# Altium integrated library GH125.IntLib: 11 symbols
Pins are listed as number, name and electrical type; pins without a type are passive.

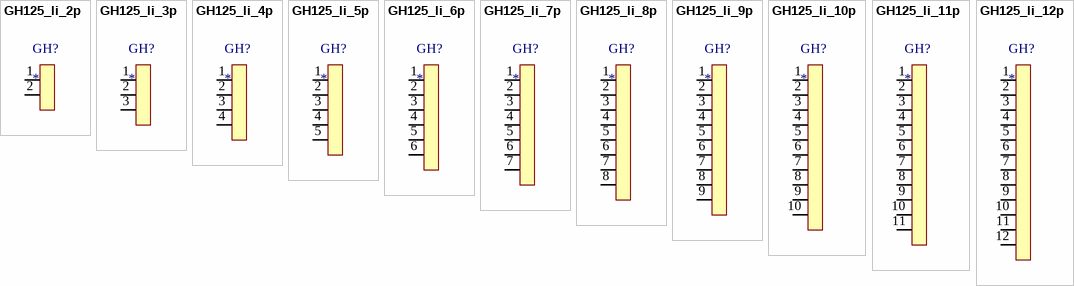
[diagram p0: symbols GH125_li_2p to GH125_li_12p]

## GH125_li_2p
designator GH?
footprint GH125_li_2p
pins: 1, 2

## GH125_li_3p
designator GH?
footprint GH125_li_3p
pins: 1, 2, 3

## GH125_li_4p
designator GH?
footprint GH125_li_4p
pins: 1, 2, 3, 4

## GH125_li_5p
designator GH?
footprint GH125_li_5p
pins: 1, 2, 3, 4, 5

## GH125_li_6p
designator GH?
footprint GH125_li_6p
pins: 1, 2, 3, 4, 5, 6

## GH125_li_7p
designator GH?
footprint GH125_li_7p
pins: 1, 2, 3, 4, 5, 6, 7

## GH125_li_8p
designator GH?
footprint GH125_li_8p
pins: 1, 2, 3, 4, 5, 6, 7, 8

## GH125_li_9p
designator GH?
footprint GH125_li_9p
pins: 1, 2, 3, 4, 5, 6, 7, 8, 9

## GH125_li_10p
designator GH?
footprint GH125_li_10p
pins: 1, 2, 3, 4, 5, 6, 7, 8, 9, 10

## GH125_li_11p
designator GH?
footprint GH125_li_11p
pins: 1, 2, 3, 4, 5, 6, 7, 8, 9, 10, 11

## GH125_li_12p
designator GH?
footprint GH125_li_12p
pins: 1, 2, 3, 4, 5, 6, 7, 8, 9, 10, 11, 12